# EAGLE library part DS2764 (library ssozonoff)
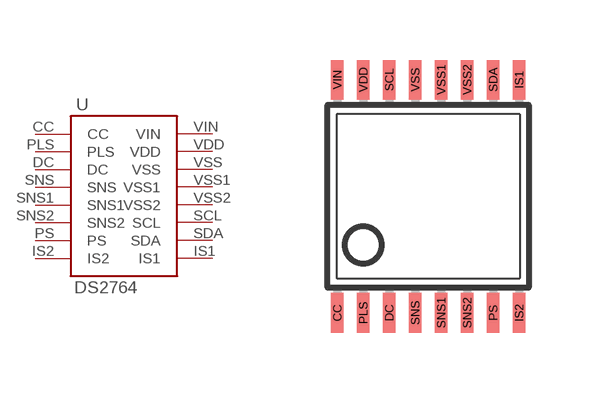
[diagram p0: symbol with the pads of DS2764; footprint DS2764]

Designator prefix -

## DS2764  [DS2764]
CC  CC
DC  DC
IS1  IS1
IS2  IS2
PLS  PLS
PS  PS
SCL  SCL
SDA  SDA
SNS  SNS
SNS1  SNS1
SNS2  SNS2
VDD  VDD
VIN  VIN
VSS  VSS
VSS1  VSS1
VSS2  VSS2

## Footprint DS2764 (pad centres in mm)
smd 0.305 x 0.991: CC -2.275,-2.918; DC -0.975,-2.918; IS1 2.275,2.918; IS2 2.275,-2.918; PLS -1.625,-2.918; PS 1.625,-2.918; SCL -0.975,2.918; SDA 1.625,2.918; SNS -0.325,-2.918; SNS1 0.325,-2.918; SNS2 0.975,-2.918; VDD -1.625,2.918; VIN -2.275,2.918; VSS -0.325,2.918; VSS1 0.325,2.918; VSS2 0.975,2.918